# EAGLE library part POLOLU_DRV8833 (library AmandaEagleLibrary)
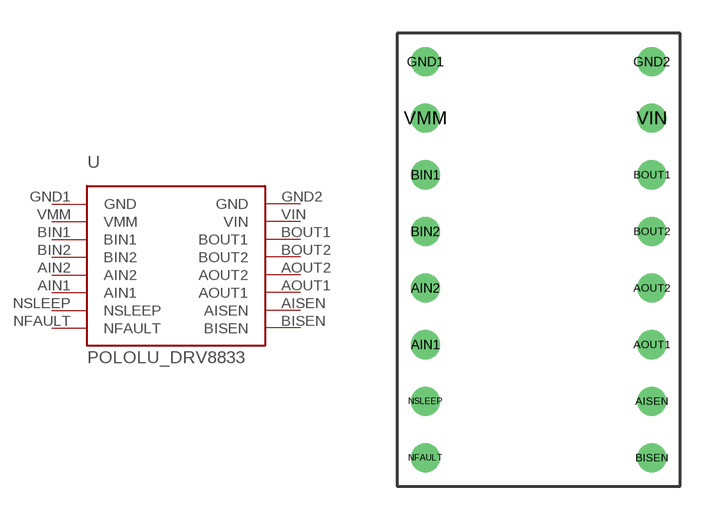
[diagram p10: symbol with the pads of POLOLU_DRV8833; footprint POLOLU_DRV8833]

Designator prefix -

## POLOLU_DRV8833  [POLOLU_DRV8833]
AIN1  AIN1
AIN2  AIN2
AISEN  AISEN
AOUT1  AOUT1
AOUT2  AOUT2
BIN1  BIN1
BIN2  BIN2
BISEN  BISEN
BOUT1  BOUT1
BOUT2  BOUT2
GND1  GND
GND2  GND
NFAULT  NFAULT
NSLEEP  NSLEEP
VIN  VIN
VMM  VMM

## Footprint POLOLU_DRV8833 (pad centres in mm)
drill 0.8: AIN1 -5.08,-13.97; AIN2 -5.08,-11.43; AISEN 5.08,-16.51; AOUT1 5.08,-13.97; AOUT2 5.08,-11.43; BIN1 -5.08,-6.35; BIN2 -5.08,-8.89; BISEN 5.08,-19.05; BOUT1 5.08,-6.35; BOUT2 5.08,-8.89; GND1 -5.08,-1.27; GND2 5.08,-1.27; NFAULT -5.08,-19.05; NSLEEP -5.08,-16.51; VIN 5.08,-3.81; VMM -5.08,-3.81